# Altium footprint library Diode_Vishay_SS16-E3-61T_eec_0.PcbLib: 1 footprints
Each footprint in its own frame and in the unit in brackets; x right, y up, seen from the top. Pads: shape width x height; smd on the part's side, far side on the other; paste and mask are expansions set on the pad; w line width, h text height; cw(c..) or ccw(c..) is an arc to the next point about the centre after c.
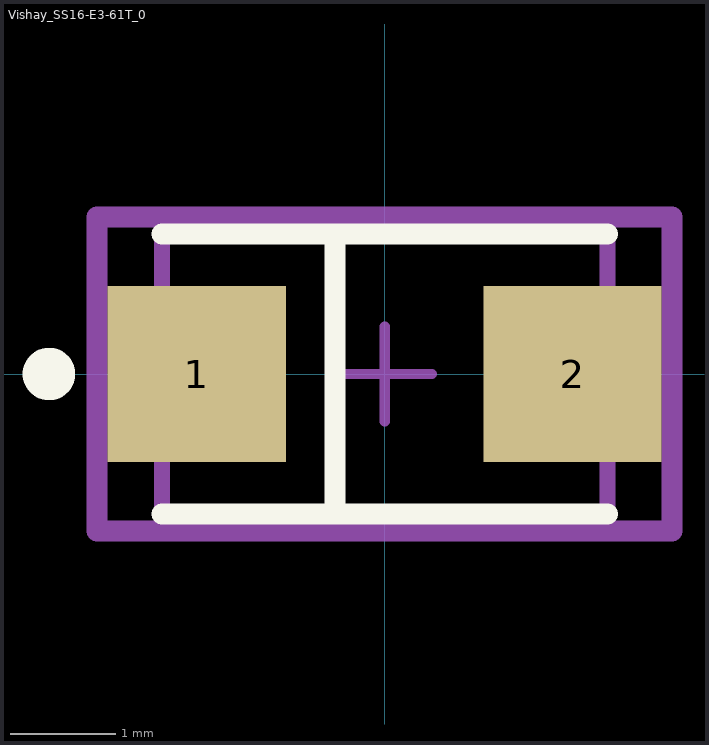
[diagram p0: the footprint, top view; thin cyan lines are the x and y axes]

## Vishay_SS16-E3-61T_0 [mm]
pads (2):
  rect 1.7x1.68 smd paste+0 mask+0: 1(-1.79,0) 2(1.79,0)
Top Overlay:
  circle w0.25: c-3.2,0 r0.125
  lines w0.2: -2.123,-1.332 2.123,-1.332 ; -2.123,1.332 2.123,1.332 ; -0.475,-1.25 -0.475,1.25
Mechanical 10:
  lines w0.2: -2.74,-1.495 2.74,-1.495 2.74,1.495 -2.74,1.495 -2.74,-1.495
  text ".Designator" at 0,0 h1
Mechanical 12:
  lines w0.15: -2.123,-1.332 2.123,-1.332 2.123,1.332 -2.123,1.332 -2.123,-1.332
Mechanical 15:
  lines w0.1: -0.449,0 0.449,0 ; 0,-0.449 0,0.449
  lines w0.2: -2.74,-1.495 2.74,-1.495 2.74,1.495 -2.74,1.495 -2.74,-1.495
3D body "3dmodel.step": height 2.41, standoff 0.13, extent -2.743,-1.397 2.743,1.397